# Altium footprint library 0475901001.PcbLib: 1 footprints
Each footprint in its own frame and in the unit in brackets; x right, y up, seen from the top. Pads: shape width x height; smd on the part's side, far side on the other; paste and mask are expansions set on the pad; w line width, h text height; cw(c..) or ccw(c..) is an arc to the next point about the centre after c.
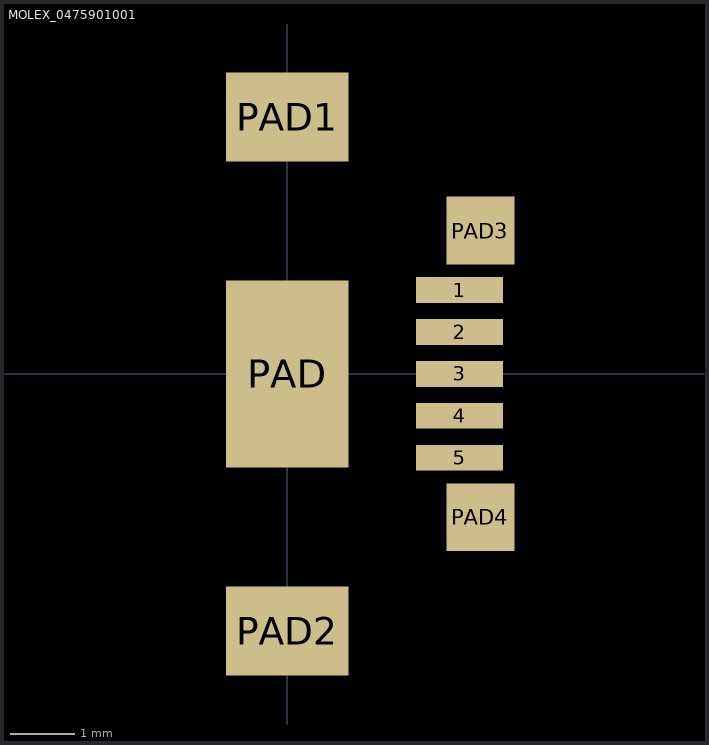
[diagram p0: the footprint, top view; thin cyan lines are the x and y axes]

## MOLEX_0475901001 [mm]
pads (10):
  rect 1.35x0.4 smd: 1(2.677,1.3) 2(2.677,0.65) 3(2.677,0) 4(2.677,-0.65) 5(2.677,-1.3)
  rect 1.9x2.9 smd: PAD(0,0)
  rect 1.9x1.375 smd: PAD1(0,3.987) PAD2(0,-3.988)
  rect 1.05x1.05 smd: PAD3(3,2.225) PAD4(3,-2.225)
Mechanical 1:
  lines w0.05: -0.75,-3.9 cw(c-0.35,-3.9) -0.35,-3.5 0.35,-3.5 cw(c0.35,-3.9) 0.75,-3.9 cw(c0.35,-3.9) 0.35,-4.3 -0.35,-4.3 cw(c-0.35,-3.9) -0.75,-3.9 ; -0.75,4.075 cw(c-0.35,4.075) -0.35,4.475 0.35,4.475 cw(c0.35,4.075) 0.75,4.075 cw(c0.35,4.075) 0.35,3.675 -0.35,3.675 cw(c-0.35,4.075) -0.75,4.075 ; 2.575,-2.225 ccw(c2.9,-2.225) 2.9,-2.55 3,-2.55 3.1,-2.55 ccw(c3.1,-2.225) 3.425,-2.225 ccw(c3.1,-2.225) 3.1,-1.9 3,-1.9 2.9,-1.9 ccw(c2.9,-2.225) 2.575,-2.225 ; 2.575,2.225 ccw(c2.9,2.225) 2.9,1.9 3,1.9 3.1,1.9 ccw(c3.1,2.225) 3.425,2.225 ccw(c3.1,2.225) 3.1,2.55 3,2.55 2.9,2.55 ccw(c2.9,2.225) 2.575,2.225